# Altium footprint library VQFN.PcbLib: 7 footprints
Each footprint in its own frame and in the unit in brackets; x right, y up, seen from the top. Pads: shape width x height; smd on the part's side, far side on the other; paste and mask are expansions set on the pad; w line width, h text height; cw(c..) or ccw(c..) is an arc to the next point about the centre after c.
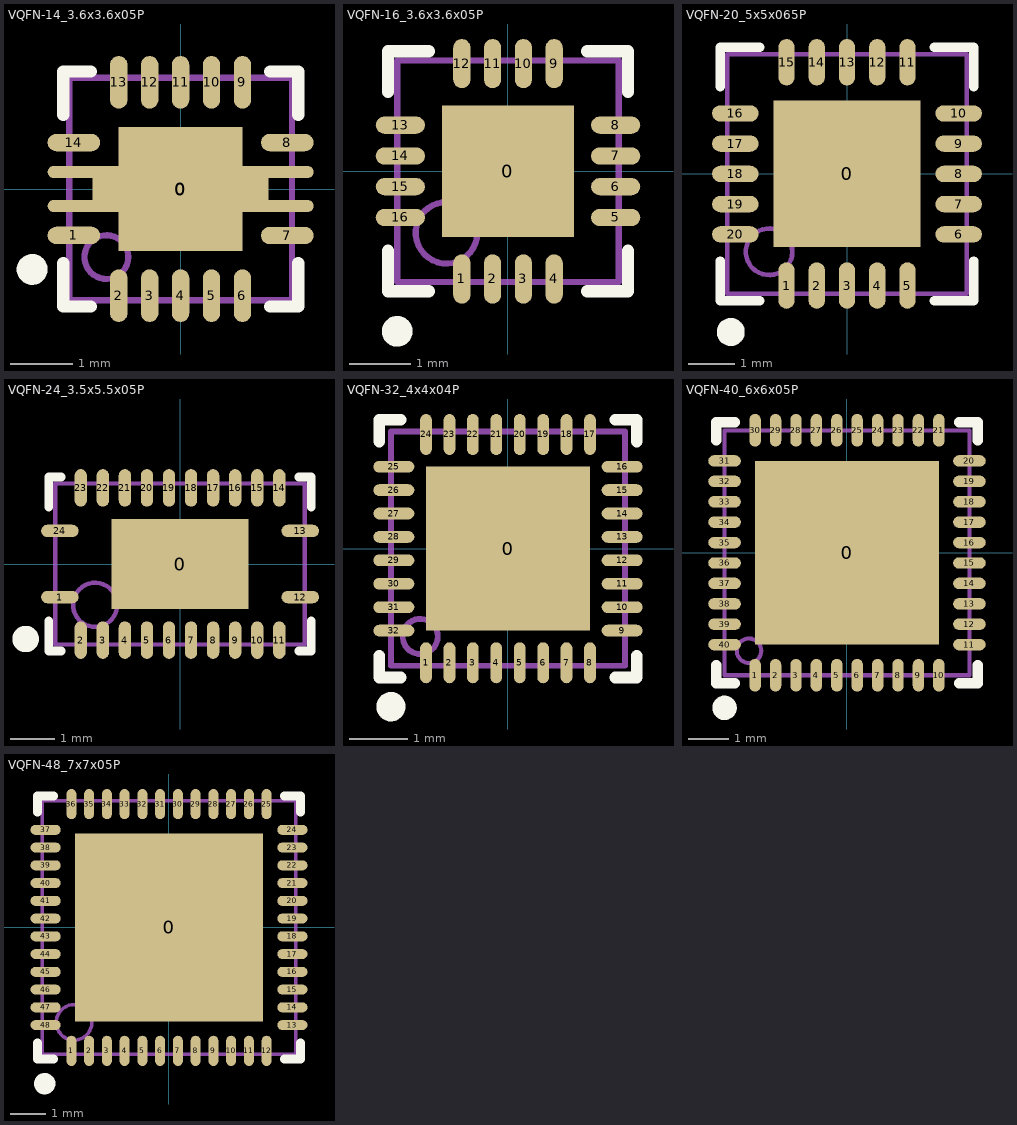
[diagram p0: the footprints below, top view; thin cyan lines are the x and y axes]

## VQFN-14_3.6x3.6x05P [mm]
pads (18):
  rect 2.85x0.35 smd mask+0.051: 0(0,0)
  rect 2x2 smd mask+0.051: 0(0,0)
  oval 0.85x0.28 smd mask+0.051: 1(-1.725,-0.75) 7(1.725,-0.753) 8(1.725,0.75) 14(-1.725,0.75)
  oval 0.28x0.85 smd mask+0.051: 2(-1,-1.725) 3(-0.5,-1.725) 4(0,-1.725) 5(0.5,-1.725) 6(1,-1.725) 9(1,1.725) 10(0.5,1.725) 11(0,1.725) 12(-0.5,1.725) 13(-1,1.725)
  oval 4.3x0.2 smd mask+0.051: ""(0,-0.275) ""(0,0.275)
Top Overlay:
  circle w0.25: c-2.4,-1.3 r0.125
  lines w0.2: -1.9,-1.2 -1.9,-1.9 -1.45,-1.9 ; -1.9,1.2 -1.9,1.9 -1.45,1.9 ; 1.45,-1.9 1.9,-1.9 1.9,-1.2 ; 1.45,1.9 1.9,1.9 1.9,1.2
Mechanical 13:
  circle w0.1: c-1.2,-1.1 r0.354
  lines w0.1: -1.8,-1.8 1.8,-1.8 1.8,1.8 -1.8,1.8 -1.8,-1.8

## VQFN-16_3.6x3.6x05P [mm]
pads (17):
  rect 2.14x2.14 smd paste-1.07 mask+0.051: 0(0,0)
  oval 0.28x0.8 smd paste-0.025 mask+0.051: 1(-0.75,-1.75) 2(-0.25,-1.75) 3(0.25,-1.75) 4(0.75,-1.75) 9(0.75,1.75) 10(0.25,1.75) 11(-0.25,1.75) 12(-0.75,1.75)
  oval 0.8x0.28 smd paste-0.025 mask+0.051: 5(1.75,-0.75) 6(1.75,-0.25) 7(1.75,0.25) 8(1.75,0.75) 13(-1.75,0.75) 14(-1.75,0.25) 15(-1.75,-0.25) 16(-1.75,-0.75)
Top Overlay:
  circle w0.25: c-1.8,-2.6 r0.125
  lines w0.2: -1.95,-1.29 -1.95,-1.95 -1.29,-1.95 ; -1.95,1.29 -1.95,1.95 -1.29,1.95 ; 1.29,-1.95 1.95,-1.95 1.95,-1.29 ; 1.29,1.95 1.95,1.95 1.95,1.29
Top Paste:
  rectangle: 0.15,0.15 1,1
  region: -0.15,1 -1,1 -1,0.15 -0.15,0.15
  rectangle: 0.15,-1 1,-0.15
  region: -0.15,-0.15 -1,-0.15 -1,-1 -0.15,-1
Mechanical 13:
  circle w0.1: c-1,-1 r0.5
  lines w0.1: -1.8,-1.8 -1.8,1.8 1.8,1.8 1.8,-1.8 -1.8,-1.8

## VQFN-20_5x5x065P [mm]
pads (21):
  rect 3.15x3.15 smd paste-1.575 mask+0.07: 0(0,0)
  oval 0.35x1 smd paste-0.025 mask+0.07: 1(-1.3,-2.4) 2(-0.65,-2.4) 3(0,-2.4) 4(0.65,-2.4) 5(1.3,-2.4) 11(1.3,2.4) 12(0.65,2.4) 13(0,2.4) 14(-0.65,2.4) 15(-1.3,2.4)
  oval 1x0.35 smd paste-0.025 mask+0.07: 6(2.4,-1.3) 7(2.4,-0.65) 8(2.4,0) 9(2.4,0.65) 10(2.4,1.3) 16(-2.4,1.3) 17(-2.4,0.65) 18(-2.4,0) 19(-2.4,-0.65) 20(-2.4,-1.3)
Top Overlay:
  circle w0.3: c-2.5,-3.4 r0.15
  lines w0.2: -2.725,-1.875 -2.725,-2.725 -1.875,-2.725 ; -2.725,1.875 -2.725,2.725 -1.875,2.725 ; 1.875,-2.725 2.725,-2.725 2.725,-1.875 ; 1.875,2.725 2.725,2.725 2.725,1.875
Top Paste:
  region: -0.15,-0.15 -1.45,-0.15 -1.45,-1.45 -0.15,-1.45
  rectangle: 0.15,-1.45 1.45,-0.15
  rectangle: 0.15,0.15 1.45,1.45
  region: -0.15,1.45 -1.45,1.45 -1.45,0.15 -0.15,0.15
Mechanical 13:
  circle w0.1: c-1.675,-1.675 r0.5
  lines w0.1: -2.575,-2.575 -2.575,2.575 2.575,2.575 2.575,-2.575 -2.575,-2.575

## VQFN-24_3.5x5.5x05P [mm]
pads (25):
  rect 3.1x2.05 smd paste-1.025 mask+0.051: 0(0,0)
  oval 0.85x0.28 smd paste-0.025 mask+0.051: 1(-2.725,-0.75) 12(2.725,-0.75) 13(2.725,0.75) 24(-2.725,0.75)
  oval 0.28x0.85 smd paste-0.025 mask+0.051: 2(-2.25,-1.725) 3(-1.75,-1.725) 4(-1.25,-1.725) 5(-0.75,-1.725) 6(-0.25,-1.725) 7(0.25,-1.725) 8(0.75,-1.725) 9(1.25,-1.725) 10(1.75,-1.725) 11(2.25,-1.725) 14(2.25,1.725) 15(1.75,1.725) 16(1.25,1.725) 17(0.75,1.725) 18(0.25,1.725) 19(-0.25,1.725) 20(-0.75,1.725) 21(-1.25,1.725) 22(-1.75,1.725) 23(-2.25,1.725)
Top Overlay:
  circle w0.3: c-3.5,-1.7 r0.15
  lines w0.2: -2.975,-1.29 -2.975,-1.975 -2.7,-1.975 ; -2.975,1.29 -2.975,1.975 -2.7,1.975 ; 2.7,-1.975 2.975,-1.975 2.975,-1.29 ; 2.7,1.975 2.975,1.975 2.975,1.29
Top Paste:
  rectangle: -1.465,-0.975 -0.145,-0.155
  region: 1.475,-0.155 0.155,-0.155 0.155,-0.975 1.475,-0.975
  region: 1.475,0.965 0.155,0.965 0.155,0.145 1.475,0.145
  rectangle: -1.465,0.145 -0.145,0.965
Mechanical 13:
  circle w0.1: c-1.925,-0.925 r0.5
  lines w0.1: -2.825,-1.825 2.825,-1.825 2.825,1.825 -2.825,1.825 -2.825,-1.825

## VQFN-32_4x4x04P [mm]
pads (33):
  rect 2.8x2.8 smd paste-0.025 mask+0.051: 0(0,0)
  oval 0.2x0.7 smd paste-0.025 mask+0.051: 1(-1.4,-1.95) 2(-1,-1.95) 3(-0.6,-1.95) 4(-0.2,-1.95) 5(0.2,-1.95) 6(0.6,-1.95) 7(1,-1.95) 8(1.4,-1.95) 17(1.4,1.95) 18(1,1.95) 19(0.6,1.95) 20(0.2,1.95) 21(-0.2,1.95) 22(-0.6,1.95) 23(-1,1.95) 24(-1.4,1.95)
  oval 0.7x0.2 smd paste-0.025 mask+0.051: 9(1.95,-1.4) 10(1.95,-1) 11(1.95,-0.6) 12(1.95,-0.2) 13(1.95,0.2) 14(1.95,0.6) 15(1.95,1) 16(1.95,1.4) 25(-1.95,1.4) 26(-1.95,1) 27(-1.95,0.6) 28(-1.95,0.2) 29(-1.95,-0.2) 30(-1.95,-0.6) 31(-1.95,-1) 32(-1.95,-1.4)
Top Overlay:
  circle w0.25: c-2,-2.7 r0.125
  lines w0.2: -2.2,-1.83 -2.2,-2.2 -1.83,-2.2 ; -2.2,1.83 -2.2,2.2 -1.83,2.2 ; 1.83,-2.2 2.2,-2.2 2.2,-1.83 ; 1.83,2.2 2.2,2.2 2.2,1.83
Mechanical 13:
  circle w0.1: c-1.5,-1.5 r0.3
  lines w0.1: -2,-2 -2,2 2,2 2,-2 -2,-2

## VQFN-40_6x6x05P [mm]
pads (41):
  rect 4.5x4.5 smd mask+0.051: 0(0,0)
  oval 0.28x0.8 smd mask+0.051: 1(-2.25,-3) 2(-1.75,-3) 3(-1.25,-3) 4(-0.75,-3) 5(-0.25,-3) 6(0.25,-3) 7(0.75,-3) 8(1.25,-3) 9(1.75,-3) 10(2.25,-3) 21(2.25,3) 22(1.75,3) 23(1.25,3) 24(0.75,3) 25(0.25,3) 26(-0.25,3) 27(-0.75,3) 28(-1.25,3) 29(-1.75,3) 30(-2.25,3)
  oval 0.8x0.28 smd mask+0.051: 11(3,-2.25) 12(3,-1.75) 13(3,-1.25) 14(3,-0.75) 15(3,-0.25) 16(3,0.25) 17(3,0.75) 18(3,1.25) 19(3,1.75) 20(3,2.25) 31(-3,2.25) 32(-3,1.75) 33(-3,1.25) 34(-3,0.75) 35(-3,0.25) 36(-3,-0.25) 37(-3,-0.75) 38(-3,-1.25) 39(-3,-1.75) 40(-3,-2.25)
Top Overlay:
  circle w0.3: c-3,-3.8 r0.15
  lines w0.254: -3.2,-2.75 -3.2,-3.2 -2.75,-3.2 ; -3.2,2.75 -3.2,3.2 -2.75,3.2 ; 2.75,-3.2 3.2,-3.2 3.2,-2.75 ; 2.75,3.2 3.2,3.2 3.2,2.75
Mechanical 13:
  circle w0.1: c-2.4,-2.4 r0.3
  lines w0.1: -3,-3 3,-3 3,3 -3,3 -3,-3

## VQFN-48_7x7x05P [mm]
pads (49):
  rect 5.3x5.3 smd paste-2.65 mask+0.051: 0(0,0)
  oval 0.28x0.85 smd paste-0.025 mask+0.051: 1(-2.75,-3.475) 2(-2.25,-3.475) 3(-1.75,-3.475) 4(-1.25,-3.475) 5(-0.75,-3.475) 6(-0.25,-3.475) 7(0.25,-3.475) 8(0.75,-3.475) 9(1.25,-3.475) 10(1.75,-3.475) 11(2.25,-3.475) 12(2.75,-3.475) 25(2.75,3.475) 26(2.25,3.475) 27(1.75,3.475) 28(1.25,3.475) 29(0.75,3.475) 30(0.25,3.475) 31(-0.25,3.475) 32(-0.75,3.475) 33(-1.25,3.475) 34(-1.75,3.475) 35(-2.25,3.475) 36(-2.75,3.475)
  oval 0.85x0.28 smd paste-0.025 mask+0.051: 13(3.475,-2.75) 14(3.475,-2.25) 15(3.475,-1.75) 16(3.475,-1.25) 17(3.475,-0.75) 18(3.475,-0.25) 19(3.475,0.25) 20(3.475,0.75) 21(3.475,1.25) 22(3.475,1.75) 23(3.475,2.25) 24(3.475,2.75) 37(-3.475,2.75) 38(-3.475,2.25) 39(-3.475,1.75) 40(-3.475,1.25) 41(-3.475,0.75) 42(-3.475,0.25) 43(-3.475,-0.25) 44(-3.475,-0.75) 45(-3.475,-1.25) 46(-3.475,-1.75) 47(-3.475,-2.25) 48(-3.475,-2.75)
Top Overlay:
  circle w0.3: c-3.5,-4.4 r0.15
  lines w0.254: -3.7,-3.25 -3.7,-3.7 -3.25,-3.7 ; -3.7,3.25 -3.7,3.7 -3.25,3.7 ; 3.25,-3.7 3.7,-3.7 3.7,-3.25 ; 3.25,3.7 3.7,3.7 3.7,3.25
Top Paste:
  rectangle: 0.1,0.1 1.2,1.2
  rectangle: 0.1,1.4 1.2,2.55
  rectangle: 1.4,0.1 2.55,1.2
  rectangle: 1.4,1.4 2.55,2.55
  region: -1.4,2.55 -2.55,2.55 -2.55,1.4 -1.4,1.4
  region: -1.4,1.2 -2.55,1.2 -2.55,0.1 -1.4,0.1
  region: -0.1,2.55 -1.2,2.55 -1.2,1.4 -0.1,1.4
  region: -0.1,1.2 -1.2,1.2 -1.2,0.1 -0.1,0.1
  region: -2.55,-1.4 -2.55,-2.55 -1.4,-2.55 -1.4,-1.4
  region: -1.225,-1.425 -1.225,-2.525 -0.075,-2.525 -0.075,-1.425
  region: -2.525,-0.075 -2.525,-1.225 -1.425,-1.225 -1.425,-0.075
  region: -1.2,-0.1 -1.2,-1.2 -0.1,-1.2 -0.1,-0.1
  region: 1.4,-1.4 1.4,-2.55 2.55,-2.55 2.55,-1.4
  region: 0.075,-1.425 0.075,-2.525 1.225,-2.525 1.225,-1.425
  region: 1.425,-0.075 1.425,-1.225 2.525,-1.225 2.525,-0.075
  region: 0.1,-0.1 0.1,-1.2 1.2,-1.2 1.2,-0.1
Mechanical 13:
  circle w0.1: c-2.675,-2.675 r0.5
  lines w0.1: -3.575,-3.575 -3.575,3.575 3.575,3.575 3.575,-3.575 -3.575,-3.575